# EAGLE library part SN65LVDS32 (library 1A-meinLib)
High-Speed differential Line Receivers, 3.3V, 2.1ns, 200MHz, Texas Instruments
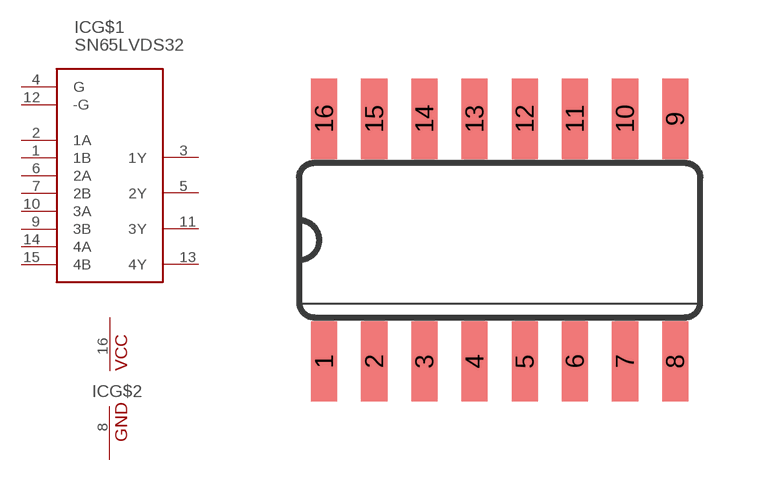
[diagram p88: symbol with the pads of SO16; footprint SO16]

Designator prefix IC; gates G$1=SN65LVDS32 G$2=VCC-GND

## SN65LVDS32  [SO16]
1  G$1:1B  in
2  G$1:1A  in
3  G$1:1Y  out
4  G$1:G  in
5  G$1:2Y  out
6  G$1:2A  in
7  G$1:2B  in
8  G$2:GND  pwr
9  G$1:3B  in
10  G$1:3A  in
11  G$1:3Y  out
12  G$1:-G  in
13  G$1:4Y  out
14  G$1:4A  in
15  G$1:4B  in
16  G$2:VCC  pwr

## Footprint SO16 (pad centres in mm)
Small Outline package 150 mil
smd 0.66 x 2.032: 1 -4.445,-3.073; 2 -3.175,-3.073; 3 -1.905,-3.073; 4 -0.635,-3.073; 5 0.635,-3.073; 6 1.905,-3.073; 7 3.175,-3.073; 8 4.445,-3.073; 9 4.445,3.073; 10 3.175,3.073; 11 1.905,3.073; 12 0.635,3.073; 13 -0.635,3.073; 14 -1.905,3.073; 15 -3.175,3.073; 16 -4.445,3.073